# Altium footprint library 元件库.PcbLib: 29 footprints (part 2 of 2)
Each footprint in its own frame and in the unit in brackets; x right, y up, seen from the top. Pads: shape width x height; smd on the part's side, far side on the other; paste and mask are expansions set on the pad; w line width, h text height; cw(c..) or ccw(c..) is an arc to the next point about the centre after c.
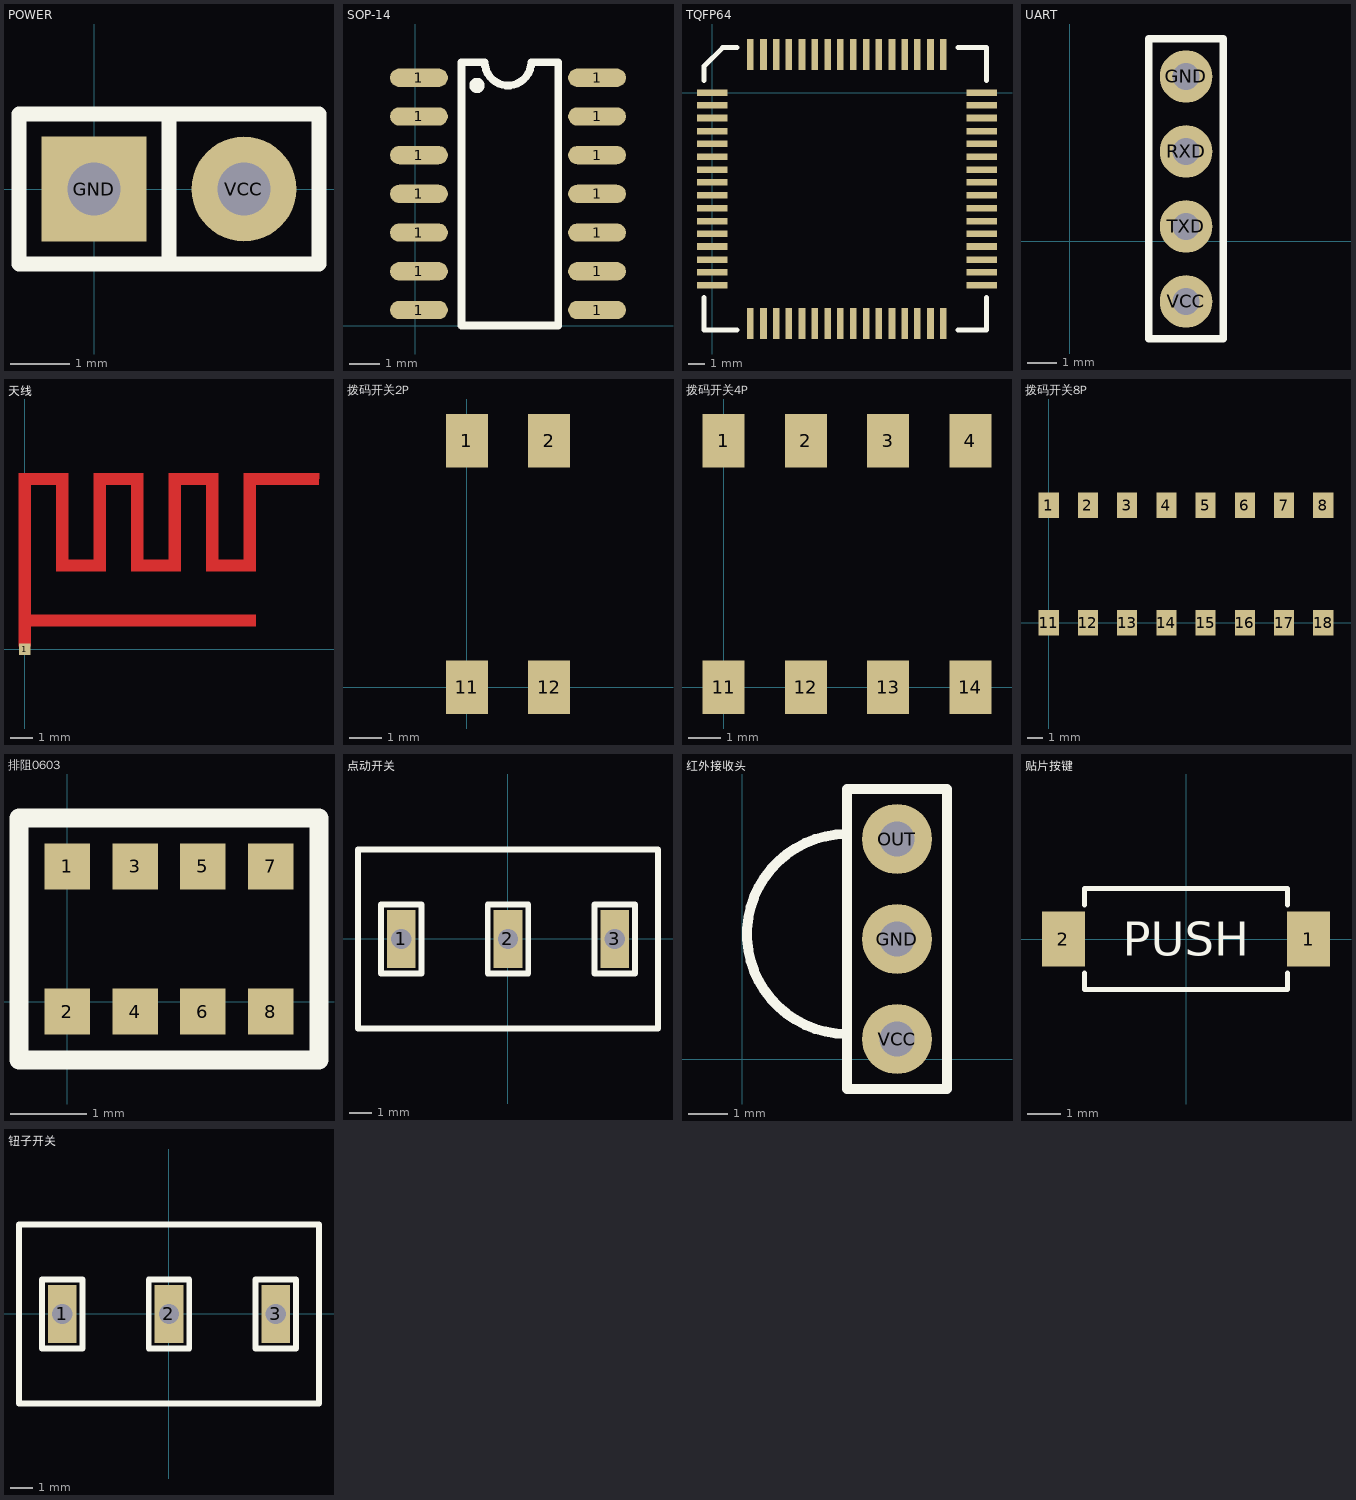
[diagram p1: the footprints below, top view; thin cyan lines are the x and y axes]

## POWER [mil]
pads (2):
  rect 70x70 hole 35.43: GND(0,0)
  round 70 hole 35.43: VCC(100,0)
Top Overlay:
  lines w10: 50,-50 50,50 ; -50,-50 150,-50 150,50 -50,50 -50,-50
3D body: height 336.22, standoff -118.11, extent -49.99,-50 150.01,50

## SOP-14 [mil]
height 50
pads (14):
  oval 74.8x23.62 smd: 1(5,20) 1(5,70) 1(5,120) 1(5,170) 1(5,220) 1(5,270) 1(5,320) 1(235,20) 1(235,70) 1(235,120) 1(235,170) 1(235,220) 1(235,270) 1(235,320)
Top Overlay:
  circle w9.84: c80,310 r4.92
  lines w10: 60,0 60,340 90,340 ccw(c120,340) 150,340 185,340 185,0 60,0
3D body: height 63.39, standoff 0, extent -2.04,-1.26 242.06,341.26

## TQFP64 [mil]
pads (64):
  rect 16x75 smd: AREF(155.8,92.96) AVCC(92.8,92.96) GND(124.8,92.96) GND(249.8,-564.04) GND(438.8,92.96) PA0(500.8,92.96) PA1(532.8,92.96) PA2(563.8,92.96) PB7(92.8,-564.04) PD0(343.8,-564.04) PD1(375.8,-564.04) PD2(406.8,-564.04) PD3(438.8,-564.04) PD4(469.8,-564.04) PD5(500.8,-564.04) PD6(532.8,-564.04) PD7(563.8,-564.04) PF0(186.8,92.96) PF1(218.8,92.96) PF2(249.8,92.96) PF3(281.8,92.96) PF4(312.8,92.96) PF5(343.8,92.96) PF6(375.8,92.96) PF7(406.8,92.96) RESET(186.8,-564.04) TOSC1/1PG4(155.8,-564.04) TOSC2/PG3(124.8,-564.04) VCC(218.8,-564.04) VCC(469.8,92.96) XTAL1(312.8,-564.04) XTAL2(281.8,-564.04)
  rect 75x16 smd: PA3(657.8,-0.04) PA4(657.8,-31.04) PA5(657.8,-62.04) PA6(657.8,-94.04) PA7(657.8,-125.04) PB0(-0.2,-282.04) PB1(-0.2,-314.04) PB2(-0.2,-345.04) PB3(-0.2,-376.04) PB4(-0.2,-408.04) PB5(-0.2,-439.04) PB6(-0.2,-471.04) PC0(657.8,-408.04) PC1(657.8,-376.04) PC2(657.8,-345.04) PC3(657.8,-314.04) PC4(657.8,-282.04) PC5(657.8,-251.04) PC6(657.8,-219.04) PC7(657.8,-188.04) PE0(-0.2,-31.04) PE1(-0.2,-62.04) PE2(-0.2,-94.04) PE3(-0.2,-125.04) PE4(-0.2,-157.04) PE5(-0.2,-188.04) PE6(-0.2,-219.04) PE7(-0.2,-251.04) PEN(-0.2,-0.04) PG0(657.8,-471.04) PG1(657.8,-439.04) PG2(657.8,-157.04)
Top Overlay:
  lines w12: -20.2,-500.04 -20.2,-580.04 59.8,-580.04 ; -20.2,29.96 -20.2,64.96 24.8,109.96 59.8,109.96 ; 599.8,-580.04 669.8,-580.04 669.8,-500.04 ; 599.8,109.96 669.8,109.96 669.8,29.96
3D body: height 55.12, standoff -3.94, extent 15.04,-549.96 644.96,79.96

## UART [mil]
pads (4):
  round 70 hole 35.43: GND(155,220) RXD(155,120) TXD(155,20) VCC(155,-80)
Top Overlay:
  lines w10: 105,-130 105,270 205,270 205,-130 105,-130
3D body: height 336.22, standoff -118.11, extent 105.01,-130 205.01,270

## 天线 [mm]
pads (1):
  rect 0.5x0.5 smd: 1(0,0)
Top Layer:
  region: -0.254,7.747 -0.254,0.127 0.254,0.127 0.254,1.016 10.16,1.016 10.16,1.524 0.254,1.524 0.254,7.239 1.397,7.239 1.397,3.429 3.556,3.429 3.556,7.239 4.699,7.239 4.699,3.429 6.858,3.429 6.858,7.239 8.001,7.239 8.001,3.429 10.16,3.429 10.16,7.239 12.954,7.239 12.954,7.747 9.652,7.747 9.652,3.937 8.509,3.937 8.509,7.747 6.35,7.747 6.35,3.937 5.207,3.937 5.207,7.747 3.048,7.747 3.048,3.937 1.905,3.937 1.905,7.747

## 拨码开关2P [mil]
height 118.11
pads (4):
  rect 51.18x65 smd: 1(0,300) 2(100,300) 11(0,0) 12(100,0)
3D body: height 122.05, standoff 0, extent -67.5,15 177.5,285
3D body: height 137.8, standoff 122.05, extent -15,175 10,225
3D body: height 137.8, standoff 122.05, extent 85,75 110,125

## 拨码开关4P [mil]
height 118.11
pads (8):
  rect 51.18x65 smd: 1(0,300) 2(100,300) 3(200,300) 4(300,300) 11(0,0) 12(100,0) 13(200,0) 14(300,0)
3D body: height 137.8, standoff 122.05, extent 85,75 110,125
3D body: height 137.8, standoff 122.05, extent -15,175 10,225
3D body: height 122.05, standoff 0, extent -67.5,15 360,285
3D body: height 137.8, standoff 122.05, extent 185,175 210,225
3D body: height 137.8, standoff 122.05, extent 285,75 310,125

## 拨码开关8P [mil]
height 118.11
pads (16):
  rect 51.18x65 smd: 1(0,300) 2(100,300) 3(200,300) 4(300,300) 5(400,300) 6(500,300) 7(600,300) 8(700,300) 11(0,0) 12(100,0) 13(200,0) 14(300,0) 15(400,0) 16(500,0) 17(600,0) 18(700,0)
3D body: height 137.8, standoff 122.05, extent 285,75 310,125
3D body: height 137.8, standoff 122.05, extent 187.5,175 212.5,225
3D body: height 122.05, standoff 0, extent -67.5,15 765,285
3D body: height 137.8, standoff 122.05, extent -15,175 10,225
3D body: height 137.8, standoff 122.05, extent 85,75 110,125
3D body: height 137.8, standoff 122.05, extent 385,175 410,225
3D body: height 137.8, standoff 122.05, extent 585,175 610,225
3D body: height 137.8, standoff 122.05, extent 485,75 510,125
3D body: height 137.8, standoff 122.05, extent 685,75 710,125

## 排阻0603 [mm]
height 0.6
pads (8):
  rect 0.6x0.6 smd: 1(0,1.778) 2(0,-0.127) 3(0.889,1.778) 4(0.889,-0.127) 5(1.778,1.778) 6(1.778,-0.127) 7(2.667,1.778) 8(2.667,-0.127)
Top Overlay:
  lines w0.254: -0.635,-0.762 -0.635,2.413 3.302,2.413 3.302,-0.762 -0.635,-0.762
3D body: height 0.55, standoff 0, extent -0.254,0 2.921,1.595

## 点动开关 [mm]
height 1300
pads (3):
  rect 1.27x2.54 hole 0.9 square: 1(-4.699,0) 2(0,0) 3(4.699,0)
Top Overlay:
  lines w0.254: -6.604,-3.937 6.604,-3.937 6.604,3.937 -6.604,3.937 -6.604,-3.937 ; -5.588,-1.524 -5.588,1.524 -3.81,1.524 -3.81,-1.524 -5.588,-1.524 ; -0.889,-1.524 0.889,-1.524 0.889,1.524 -0.889,1.524 -0.889,-1.524 ; 3.81,-1.524 5.588,-1.524 5.588,1.524 3.81,1.524 3.81,-1.524
3D body: height 1.2, standoff -2, extent 4.318,-1.016 5.08,1.016
3D body: height 1.2, standoff -2, extent -0.381,-1.016 0.381,1.016
3D body: height 1.2, standoff -2, extent -5.08,-1.016 -4.318,1.016
3D body: height 21.6, standoff 11.6, extent -2,-2 2,2
3D body: height 27.6, standoff 21.6, extent -4.994,-4.998 5,4.999
3D body: height 11.6, standoff 0, extent -6.604,-3.937 6.604,3.937
3D body: height 11.8, standoff 3, extent -5.08,-4.064 5.08,4.064

## 红外接收头 [mil]
height 267.72
pads (3):
  round 70 hole 35.43: GND(155,120) OUT(155,220) VCC(155,20)
Top Overlay:
  lines w10: 105,25 cw(c105,125) 105,225 ; 105,-30 105,270 205,270 205,-30 105,-30
3D body: height 787.4, standoff -166.14, extent 93.7,-85 306.3,313.82

## 贴片按键 [mil]
pads (2):
  rect 51.18x65 smd: 1(145,0) 2(-145,0)
Top Overlay:
  lines w6: -120,-40 -120,-60 120,-60 120,-40 ; -120,40 -120,60 120,60 120,40
  text "PUSH" at -75,-20 h40
3D body: height 74.8, standoff 0, extent -129.92,-65 129.92,60.98

## 钮子开关 [mm]
pads (3):
  rect 1.27x2.54 hole 0.9 square: 1(-4.699,0) 2(0,0) 3(4.699,0)
Top Overlay:
  lines w0.254: -6.604,-3.937 -6.604,3.937 6.604,3.937 6.604,-3.937 -6.604,-3.937 ; -5.588,-1.524 -3.81,-1.524 -3.81,1.524 -5.588,1.524 -5.588,-1.524 ; -0.889,-1.524 -0.889,1.524 0.889,1.524 0.889,-1.524 -0.889,-1.524 ; 3.81,-1.524 3.81,1.524 5.588,1.524 5.588,-1.524 3.81,-1.524
3D body: height 29.33, standoff -4, extent -6.6,-3.937 6.6,3.963